# EAGLE library part DNC_TITREUR (library pierre_vv)
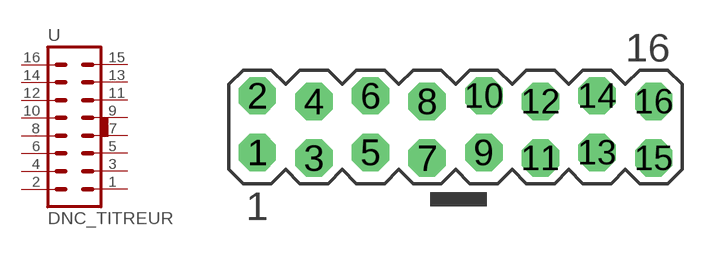
[diagram p8: symbol with the pads of DNC_TITREUR; footprint DNC_TITREUR]

Designator prefix -

## DNC_TITREUR  [DNC_TITREUR]
1  1  pas
2  2  pas
3  3  pas
4  4  pas
5  5  pas
6  6  pas
7  7  pas
8  8  pas
9  9  pas
10  10  pas
11  11  pas
12  12  pas
13  13  pas
14  14  pas
15  15  pas
16  16  pas

## Footprint DNC_TITREUR (pad centres in mm)
drill 0.9 pad 1.676 octagon: 1 -8.89,-1.143; 2 -8.89,1.397; 3 -6.35,-1.397; 4 -6.35,1.143; 5 -3.81,-1.143; 6 -3.81,1.397; 7 -1.27,-1.397; 8 -1.27,1.143; 9 1.27,-1.143; 10 1.27,1.397; 11 3.81,-1.397; 12 3.81,1.143; 13 6.35,-1.143; 14 6.35,1.397; 15 8.89,-1.397; 16 8.89,1.143